# Altium footprint library CON MODS-F-8P8C-x-xx-N-N-SM.PcbLib: 1 footprints
Each footprint in its own frame and in the unit in brackets; x right, y up, seen from the top. Pads: shape width x height; smd on the part's side, far side on the other; paste and mask are expansions set on the pad; w line width, h text height; cw(c..) or ccw(c..) is an arc to the next point about the centre after c.
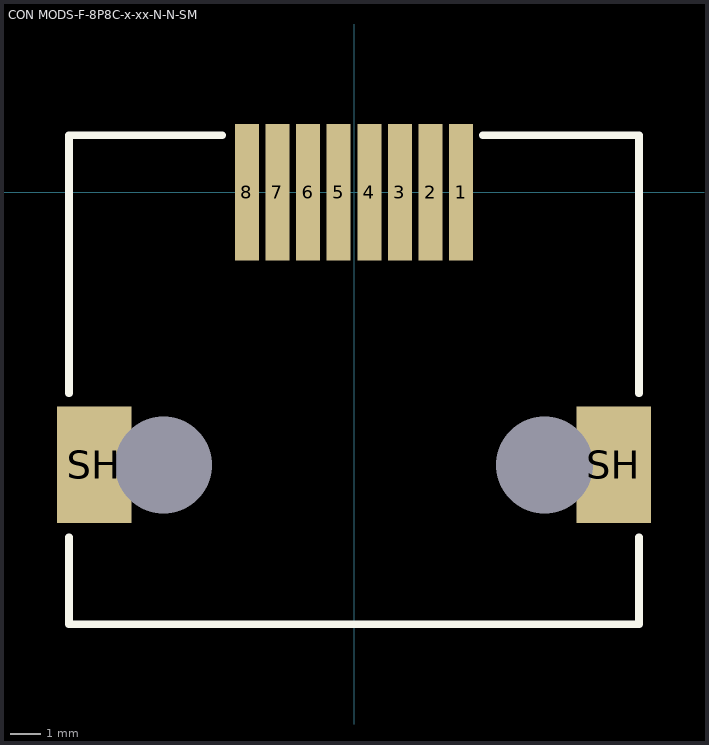
[diagram p0: the footprint, top view; thin cyan lines are the x and y axes]

## CON MODS-F-8P8C-x-xx-N-N-SM [mm]
pads (12):
  rect 0.8x4.55 smd paste+0 mask+0.05: 1(3.57,0) 2(2.55,0) 3(1.53,0) 4(0.51,0) 5(-0.51,0) 6(-1.53,0) 7(-2.55,0) 8(-3.57,0)
  round 0 hole 3.23 unplated paste+0 mask+0: A(-6.35,-9.09) A(6.35,-9.09)
  rect 2.49x3.89 smd paste+0 mask+0: SH(-8.66,-9.09) SH(8.66,-9.09)
Top Overlay:
  lines w0.254: -9.5,-11.5 -9.5,-14.4 9.5,-14.4 9.5,-11.5 ; -9.5,-6.7 -9.5,1.9 -4.4,1.9 ; 4.3,1.9 9.5,1.9 9.5,-6.7
3D body: height 13.53, standoff -1.39, extent -9.521,-14.39 9.521,1.9